# EAGLE library part 74HC165 (library Bauteile)
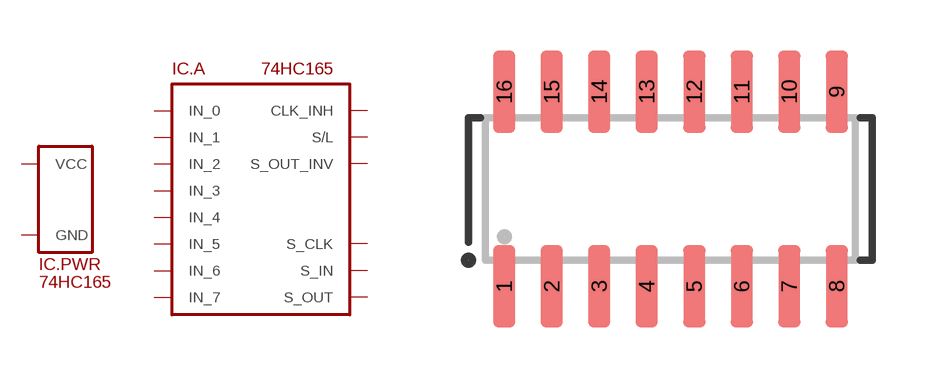
[diagram p2: symbol with the pads of SO16; footprint SO16]

Designator prefix IC; gates .PWR=SUPPLY_VCC/GND .A=74HC165

## 74HC165(SO16)  [SO16]
1  .A:S/L
2  .A:S_CLK
3  .A:IN_4
4  .A:IN_5
5  .A:IN_6
6  .A:IN_7
7  .A:S_OUT_INV
8  .PWR:GND
9  .A:S_OUT
10  .A:S_IN
11  .A:IN_0
12  .A:IN_1
13  .A:IN_2
14  .A:IN_3
15  .A:CLK_INH
16  .PWR:VCC

## Footprint SO16 (pad centres in mm)
smd 0.6 x 2.2: 1 -4.445,-2.6; 2 -3.175,-2.6; 3 -1.905,-2.6; 4 -0.635,-2.6; 5 0.635,-2.6; 6 1.905,-2.6; 7 3.175,-2.6; 8 4.445,-2.6; 9 4.445,2.6; 10 3.175,2.6; 11 1.905,2.6; 12 0.635,2.6; 13 -0.635,2.6; 14 -1.905,2.6; 15 -3.175,2.6; 16 -4.445,2.6